# Altium integrated library TI Data Converters Analog to Digital Converter.IntLib: 2198 symbols (part 63 of 164)
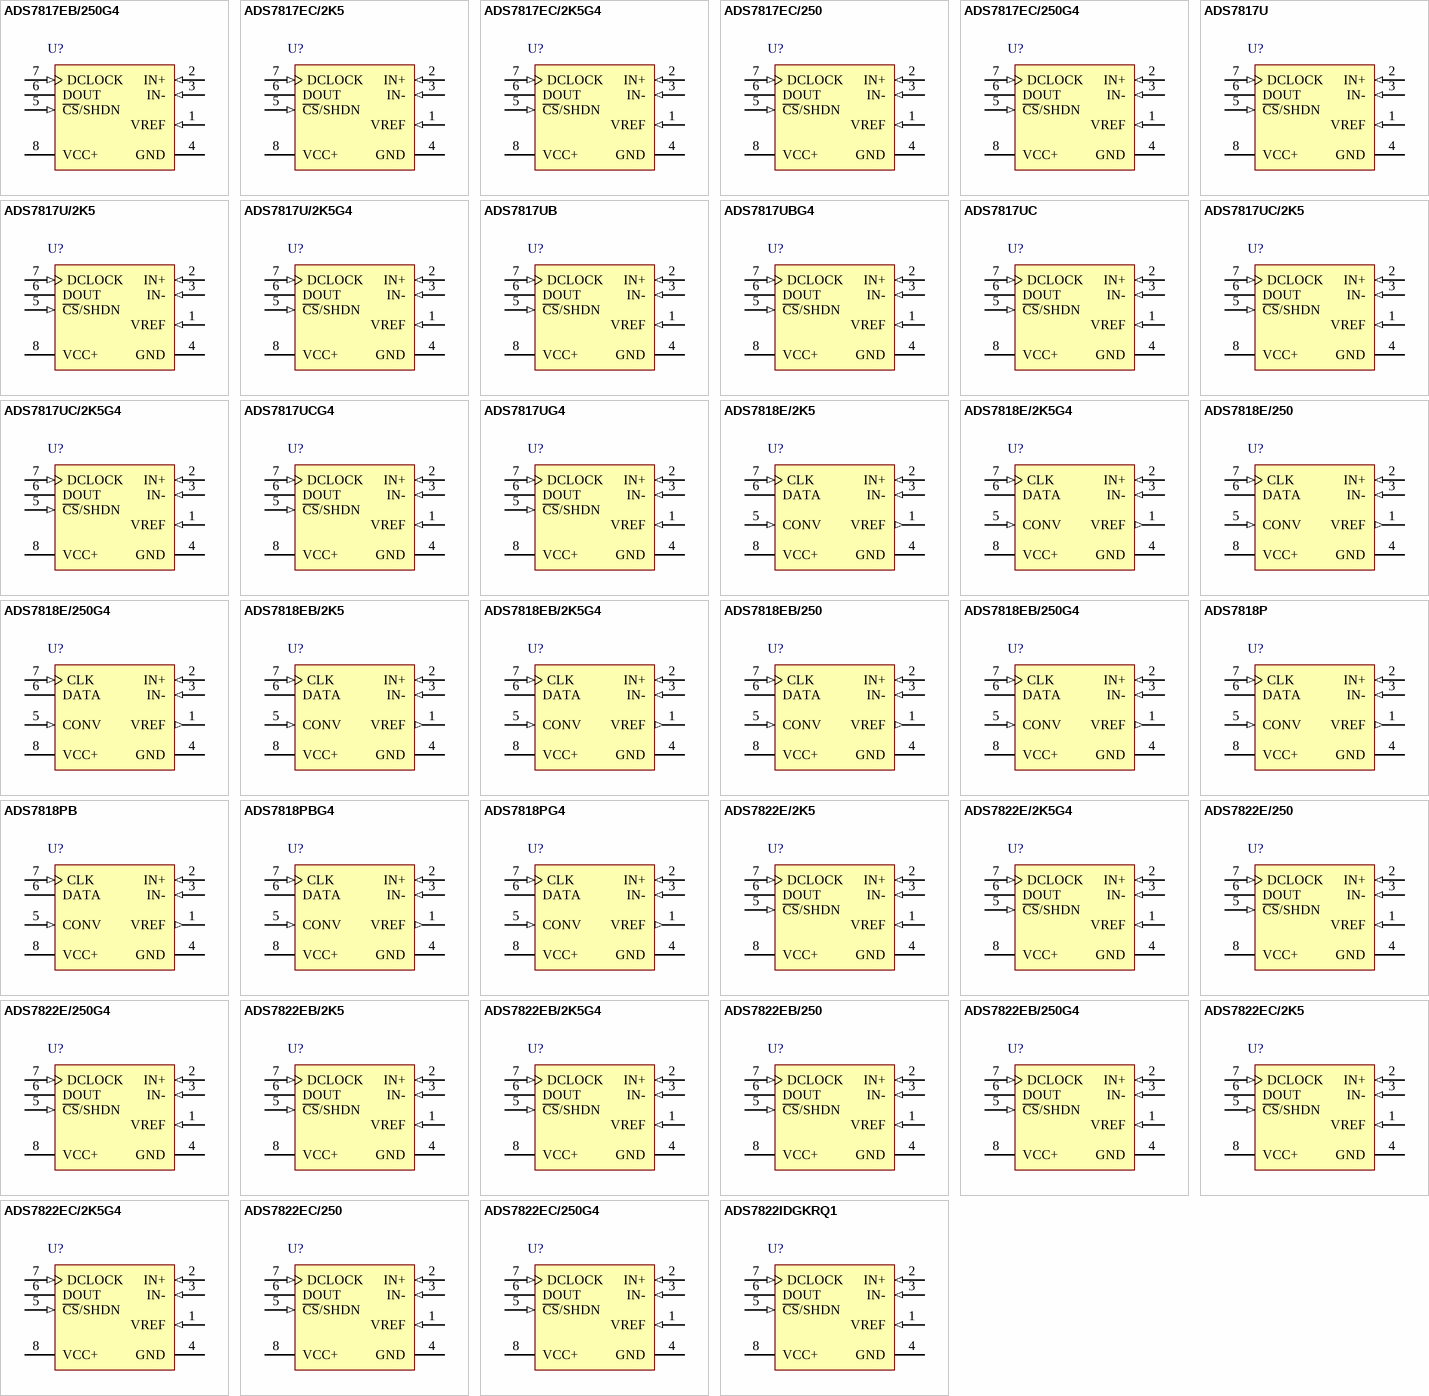
[diagram p188: symbols ADS7817EB/250G4 to ADS7822IDGKRQ1]

## ADS7818EB/250G4
designator U?
12-Bit High Speed Low Power Sampling ADC, -40 to 85 degC, 8-pin SOP (DGK8), Green (RoHS & no Sb/Br); Manufacturer: Texas Instruments; PartNumber: ADS7818EB/250G4; # Input Channels: 1; Analog Voltage AV/DD(Max)(V): 5.25; Analog Voltage AV/DD(Min)(V): 4.75; Architecture: SAR; Interface: Serial SPI; Resolution(Bits): 12; Sample Rate (max)(SPS): 500k; SFDR(dB): 82; SINAD(dB): 72; SubFamily: Precision ADC (<=10MSPS); DatasheetVersion: SBAS078; PackageVersion: 4073329/E, 05/2006; PackageReference: DGK8; PackageDescription: 8-Pin Thin Small Outline, Body 3 x 3 mm, Pitch 0.65 mm; Supplier 1: Digi-Key; Supplier Part Number 1: ADS5272IPFPG4-ND; Digital Supply(Max)(V): 5.25; Digital Supply(Min)(V): 4.75; Eco-Plan: Green (RoHS & no Sb/Br); INL(Max)(+/-LSB): 1; SNR(dB): 72; Mounting Technology: Surface Mount; Code_JEDEC: MO-187; ComponentLink1Description: Manufacturer URL; ComponentLink1URL: http://www.ti.com/; ComponentLink2Description: Datasheet; ComponentLink2URL: http://www.ti.com/general/docs/lit/getliterature.tsp?genericPartNumber=ADS7818&fileType=pdf; ComponentLink3Description: Package Specification; ComponentLink3URL: http://www.ti.com/litv/pdf/mpds028d
footprint TI-DGK8_N (SOP, 8-Leads, Body 3x3mm, Pitch 0.65mm, IPC Medium Density)
footprint TI-DGK8_L (SOP, 8-Leads, Body 3x3mm, Pitch 0.65mm, IPC High Density)
footprint TI-DGK8_M (SOP, 8-Leads, Body 3x3mm, Pitch 0.65mm, IPC Low Density)
pins: 1 VREF (out) "Reference Output. Decouple to ground with a 0.1uF ceramic capacitor and a 2.2uF tantalum capacitor.", 2 IN+ (in) "Non-Inverting Input.", 3 IN- (in) "Inverting Input. Connect to ground or to remote ground sense point.", 4 GND (power) "Ground.", 5 CONV (in) "Convert Input. Controls the sample/hold mode, start of conversion, start of serial data transfer, type of serial transfer, and power down mode. See the Digital Interface section for more information.", 6 DATA (hiz) "Serial Data Output. The 12-bit conversion result is serially transmitted most significant bit first with each bit valid on the rising edge of CLK. By properly controlling the CONV input, it is possibly to have the data (See Datasheet)", 7 CLK (in) "Clock Input. Synchronizes the serial data transfer and determines conversion speed.", 8 VCC+ (power) "Power Supply. Decouple to ground with a 0.1uF ceramic capacitor and a 10uF tantalum capacitor."

## ADS7818P
designator U?
12-Bit High Speed Low Power Sampling ADC, -40 to 85 degC, 8-pin DIP (P8), Green (RoHS & no Sb/Br); Manufacturer: Texas Instruments; PartNumber: ADS7818P; # Input Channels: 1; Analog Voltage AV/DD(Max)(V): 5.25; Analog Voltage AV/DD(Min)(V): 4.75; Architecture: SAR; INL(Max)(+/-LSB): 2; Interface: Serial SPI; Resolution(Bits): 12; Sample Rate (max)(SPS): 500k; SFDR(dB): 78; SINAD(dB): 70; SNR(dB): 72; SubFamily: Precision ADC (<=10MSPS); DatasheetVersion: SBAS078; PackageVersion: 4040082/E, 04/2010; PackageReference: P8; PackageDescription: 8-Pin Plastic In-Line, Body 9.59 x 6.35 mm, Pitch 2.54 mm; Supplier 1: Digi-Key; Supplier Part Number 1: ADS5272IPFPT-ND; Digital Supply(Max)(V): 5.25; Digital Supply(Min)(V): 4.75; Eco-Plan: Green (RoHS & no Sb/Br); Mounting Technology: Through Hole; Code_JEDEC: MS-001; ComponentLink1Description: Manufacturer URL; ComponentLink1URL: http://www.ti.com/; ComponentLink2Description: Datasheet; ComponentLink2URL: http://www.ti.com/general/docs/lit/getliterature.tsp?genericPartNumber=ADS7818&fileType=pdf; ComponentLink3Description: Package Specification; ComponentLink3URL: http://www.ti.com/litv/pdf/mpdi001b
footprint TI-P8 (DIP, 8-Leads, Body 9.59x6.35mm, Pitch 2.54mm)
pins: 1 VREF (out) "Reference Output. Decouple to ground with a 0.1uF ceramic capacitor and a 2.2uF tantalum capacitor.", 2 IN+ (in) "Non-Inverting Input.", 3 IN- (in) "Inverting Input. Connect to ground or to remote ground sense point.", 4 GND (power) "Ground.", 5 CONV (in) "Convert Input. Controls the sample/hold mode, start of conversion, start of serial data transfer, type of serial transfer, and power down mode. See the Digital Interface section for more information.", 6 DATA (hiz) "Serial Data Output. The 12-bit conversion result is serially transmitted most significant bit first with each bit valid on the rising edge of CLK. By properly controlling the CONV input, it is possibly to have the data (See Datasheet)", 7 CLK (in) "Clock Input. Synchronizes the serial data transfer and determines conversion speed.", 8 VCC+ (power) "Power Supply. Decouple to ground with a 0.1uF ceramic capacitor and a 10uF tantalum capacitor."

## ADS7818PB
designator U?
12-Bit High Speed Low Power Sampling ADC, -40 to 85 degC, 8-pin DIP (P8), Green (RoHS & no Sb/Br); Manufacturer: Texas Instruments; PartNumber: ADS7818PB; # Input Channels: 1; Analog Voltage AV/DD(Max)(V): 5.25; Analog Voltage AV/DD(Min)(V): 4.75; Architecture: SAR; Interface: Serial SPI; Resolution(Bits): 12; Sample Rate (max)(SPS): 500k; SFDR(dB): 82; SINAD(dB): 72; SubFamily: Precision ADC (<=10MSPS); DatasheetVersion: SBAS078; PackageVersion: 4040082/E, 04/2010; PackageReference: P8; PackageDescription: 8-Pin Plastic In-Line, Body 9.59 x 6.35 mm, Pitch 2.54 mm; Supplier 1: Digi-Key; Supplier Part Number 1: ADS5272IPFPTG4-ND; Digital Supply(Max)(V): 5.25; Digital Supply(Min)(V): 4.75; Eco-Plan: Green (RoHS & no Sb/Br); INL(Max)(+/-LSB): 1; SNR(dB): 72; Mounting Technology: Through Hole; Code_JEDEC: MS-001; ComponentLink1Description: Manufacturer URL; ComponentLink1URL: http://www.ti.com/; ComponentLink2Description: Datasheet; ComponentLink2URL: http://www.ti.com/general/docs/lit/getliterature.tsp?genericPartNumber=ADS7818&fileType=pdf; ComponentLink3Description: Package Specification; ComponentLink3URL: http://www.ti.com/litv/pdf/mpdi001b
footprint TI-P8 (DIP, 8-Leads, Body 9.59x6.35mm, Pitch 2.54mm)
pins: 1 VREF (out) "Reference Output. Decouple to ground with a 0.1uF ceramic capacitor and a 2.2uF tantalum capacitor.", 2 IN+ (in) "Non-Inverting Input.", 3 IN- (in) "Inverting Input. Connect to ground or to remote ground sense point.", 4 GND (power) "Ground.", 5 CONV (in) "Convert Input. Controls the sample/hold mode, start of conversion, start of serial data transfer, type of serial transfer, and power down mode. See the Digital Interface section for more information.", 6 DATA (hiz) "Serial Data Output. The 12-bit conversion result is serially transmitted most significant bit first with each bit valid on the rising edge of CLK. By properly controlling the CONV input, it is possibly to have the data (See Datasheet)", 7 CLK (in) "Clock Input. Synchronizes the serial data transfer and determines conversion speed.", 8 VCC+ (power) "Power Supply. Decouple to ground with a 0.1uF ceramic capacitor and a 10uF tantalum capacitor."

## ADS7818PBG4
designator U?
12-Bit High Speed Low Power Sampling ADC, -40 to 85 degC, 8-pin DIP (P8), Green (RoHS & no Sb/Br); Manufacturer: Texas Instruments; PartNumber: ADS7818PBG4; # Input Channels: 1; Analog Voltage AV/DD(Max)(V): 5.25; Analog Voltage AV/DD(Min)(V): 4.75; Architecture: SAR; Interface: Serial SPI; Resolution(Bits): 12; Sample Rate (max)(SPS): 500k; SFDR(dB): 82; SINAD(dB): 72; SubFamily: Precision ADC (<=10MSPS); DatasheetVersion: SBAS078; PackageVersion: 4040082/E, 04/2010; PackageReference: P8; PackageDescription: 8-Pin Plastic In-Line, Body 9.59 x 6.35 mm, Pitch 2.54 mm; Supplier 1: Digi-Key; Supplier Part Number 1: 296-18309-ND; Digital Supply(Max)(V): 5.25; Digital Supply(Min)(V): 4.75; Eco-Plan: Green (RoHS & no Sb/Br); INL(Max)(+/-LSB): 1; SNR(dB): 72; Mounting Technology: Through Hole; Code_JEDEC: MS-001; ComponentLink1Description: Manufacturer URL; ComponentLink1URL: http://www.ti.com/; ComponentLink2Description: Datasheet; ComponentLink2URL: http://www.ti.com/general/docs/lit/getliterature.tsp?genericPartNumber=ADS7818&fileType=pdf; ComponentLink3Description: Package Specification; ComponentLink3URL: http://www.ti.com/litv/pdf/mpdi001b
footprint TI-P8 (DIP, 8-Leads, Body 9.59x6.35mm, Pitch 2.54mm)
pins: 1 VREF (out) "Reference Output. Decouple to ground with a 0.1uF ceramic capacitor and a 2.2uF tantalum capacitor.", 2 IN+ (in) "Non-Inverting Input.", 3 IN- (in) "Inverting Input. Connect to ground or to remote ground sense point.", 4 GND (power) "Ground.", 5 CONV (in) "Convert Input. Controls the sample/hold mode, start of conversion, start of serial data transfer, type of serial transfer, and power down mode. See the Digital Interface section for more information.", 6 DATA (hiz) "Serial Data Output. The 12-bit conversion result is serially transmitted most significant bit first with each bit valid on the rising edge of CLK. By properly controlling the CONV input, it is possibly to have the data (See Datasheet)", 7 CLK (in) "Clock Input. Synchronizes the serial data transfer and determines conversion speed.", 8 VCC+ (power) "Power Supply. Decouple to ground with a 0.1uF ceramic capacitor and a 10uF tantalum capacitor."

## ADS7818PG4
designator U?
12-Bit High Speed Low Power Sampling ADC, -40 to 85 degC, 8-pin DIP (P8), Green (RoHS & no Sb/Br); Manufacturer: Texas Instruments; PartNumber: ADS7818PG4; # Input Channels: 1; Analog Voltage AV/DD(Max)(V): 5.25; Analog Voltage AV/DD(Min)(V): 4.75; Architecture: SAR; INL(Max)(+/-LSB): 2; Interface: Serial SPI; Resolution(Bits): 12; Sample Rate (max)(SPS): 500k; SFDR(dB): 78; SINAD(dB): 70; SNR(dB): 72; SubFamily: Precision ADC (<=10MSPS); DatasheetVersion: SBAS078; PackageVersion: 4040082/E, 04/2010; PackageReference: P8; PackageDescription: 8-Pin Plastic In-Line, Body 9.59 x 6.35 mm, Pitch 2.54 mm; Supplier 1: Digi-Key; Supplier Part Number 1: ADS5277IPFPG4-ND; Digital Supply(Max)(V): 5.25; Digital Supply(Min)(V): 4.75; Eco-Plan: Green (RoHS & no Sb/Br); Mounting Technology: Through Hole; Code_JEDEC: MS-001; ComponentLink1Description: Manufacturer URL; ComponentLink1URL: http://www.ti.com/; ComponentLink2Description: Datasheet; ComponentLink2URL: http://www.ti.com/general/docs/lit/getliterature.tsp?genericPartNumber=ADS7818&fileType=pdf; ComponentLink3Description: Package Specification; ComponentLink3URL: http://www.ti.com/litv/pdf/mpdi001b
footprint TI-P8 (DIP, 8-Leads, Body 9.59x6.35mm, Pitch 2.54mm)
pins: 1 VREF (out) "Reference Output. Decouple to ground with a 0.1uF ceramic capacitor and a 2.2uF tantalum capacitor.", 2 IN+ (in) "Non-Inverting Input.", 3 IN- (in) "Inverting Input. Connect to ground or to remote ground sense point.", 4 GND (power) "Ground.", 5 CONV (in) "Convert Input. Controls the sample/hold mode, start of conversion, start of serial data transfer, type of serial transfer, and power down mode. See the Digital Interface section for more information.", 6 DATA (hiz) "Serial Data Output. The 12-bit conversion result is serially transmitted most significant bit first with each bit valid on the rising edge of CLK. By properly controlling the CONV input, it is possibly to have the data (See Datasheet)", 7 CLK (in) "Clock Input. Synchronizes the serial data transfer and determines conversion speed.", 8 VCC+ (power) "Power Supply. Decouple to ground with a 0.1uF ceramic capacitor and a 10uF tantalum capacitor."

## ADS7822E/2K5
designator U?
12-Bit, 200 kSPS Micro Power Sampling ADC, -40 to 85 degC, 8-pin SOP (DGK8), Green (RoHS & no Sb/Br); Manufacturer: Texas Instruments; PartNumber: ADS7822E/2K5; # Input Channels: 1; Analog Voltage AV/DD(Max)(V): 5.25; Analog Voltage AV/DD(Min)(V): 2.7; Architecture: SAR; INL(Max)(+/-LSB): 2; Interface: Serial SPI; Resolution(Bits): 12; Sample Rate (max)(SPS): 200k; SFDR(dB): 86; SINAD(dB): 71; SubFamily: Precision ADC (<=10MSPS); DatasheetVersion: SBAS062C; PackageVersion: 4073329/E, 05/2006; PackageReference: DGK8; PackageDescription: 8-Pin Thin Small Outline, Body 3 x 3 mm, Pitch 0.65 mm; Supplier 1: Digi-Key; Supplier Part Number 1: ADS5277IPFPT-ND; Digital Supply(Max)(V): 5.25; Digital Supply(Min)(V): 2.7; Eco-Plan: Green (RoHS & no Sb/Br); Mounting Technology: Surface Mount; Code_JEDEC: MO-187; ComponentLink1Description: Manufacturer URL; ComponentLink1URL: http://www.ti.com/; ComponentLink2Description: Datasheet; ComponentLink2URL: http://www.ti.com/general/docs/lit/getliterature.tsp?genericPartNumber=ADS7822&fileType=pdf; ComponentLink3Description: Package Specification; ComponentLink3URL: http://www.ti.com/litv/pdf/mpds028d
footprint TI-DGK8_N (SOP, 8-Leads, Body 3x3mm, Pitch 0.65mm, IPC Medium Density)
footprint TI-DGK8_L (SOP, 8-Leads, Body 3x3mm, Pitch 0.65mm, IPC High Density)
footprint TI-DGK8_M (SOP, 8-Leads, Body 3x3mm, Pitch 0.65mm, IPC Low Density)
pins: 1 VREF (in) "Reference input", 2 IN+ (in) "Noninverting input", 3 IN- (in) "Inverting input. Connect to ground or to remote ground sense point.", 4 GND (power) "Ground", 5 ~{CS}/SHDN (in) "Chip select when low; Shutdown mode when high.", 6 DOUT (hiz) "The serial output data word  is comprised of 12 bits of data. In operation, the data are valid on the falling edge of DCLOCK. The second clock pulse after the falling edge of C\S\ enables the serial output. After one null (See Datasheet)", 7 DCLOCK (in) "Data clock synchronizes the serial data transfer and determines conversion speed.", 8 VCC+ (power) "Power supply"

## ADS7822E/2K5G4
designator U?
12-Bit, 200 kSPS Micro Power Sampling ADC, -40 to 85 degC, 8-pin SOP (DGK8), Green (RoHS & no Sb/Br); Manufacturer: Texas Instruments; PartNumber: ADS7822E/2K5G4; # Input Channels: 1; Analog Voltage AV/DD(Max)(V): 5.25; Analog Voltage AV/DD(Min)(V): 2.7; Architecture: SAR; INL(Max)(+/-LSB): 2; Interface: Serial SPI; Resolution(Bits): 12; Sample Rate (max)(SPS): 200k; SFDR(dB): 86; SINAD(dB): 71; SubFamily: Precision ADC (<=10MSPS); DatasheetVersion: SBAS062C; PackageVersion: 4073329/E, 05/2006; PackageReference: DGK8; PackageDescription: 8-Pin Thin Small Outline, Body 3 x 3 mm, Pitch 0.65 mm; Supplier 1: Digi-Key; Supplier Part Number 1: ADS5277IPFPTG4-ND; Digital Supply(Max)(V): 5.25; Digital Supply(Min)(V): 2.7; Eco-Plan: Green (RoHS & no Sb/Br); Mounting Technology: Surface Mount; Code_JEDEC: MO-187; ComponentLink1Description: Manufacturer URL; ComponentLink1URL: http://www.ti.com/; ComponentLink2Description: Datasheet; ComponentLink2URL: http://www.ti.com/general/docs/lit/getliterature.tsp?genericPartNumber=ADS7822&fileType=pdf; ComponentLink3Description: Package Specification; ComponentLink3URL: http://www.ti.com/litv/pdf/mpds028d
footprint TI-DGK8_N (SOP, 8-Leads, Body 3x3mm, Pitch 0.65mm, IPC Medium Density)
footprint TI-DGK8_L (SOP, 8-Leads, Body 3x3mm, Pitch 0.65mm, IPC High Density)
footprint TI-DGK8_M (SOP, 8-Leads, Body 3x3mm, Pitch 0.65mm, IPC Low Density)
pins: 1 VREF (in) "Reference input", 2 IN+ (in) "Noninverting input", 3 IN- (in) "Inverting input. Connect to ground or to remote ground sense point.", 4 GND (power) "Ground", 5 ~{CS}/SHDN (in) "Chip select when low; Shutdown mode when high.", 6 DOUT (hiz) "The serial output data word  is comprised of 12 bits of data. In operation, the data are valid on the falling edge of DCLOCK. The second clock pulse after the falling edge of C\S\ enables the serial output. After one null (See Datasheet)", 7 DCLOCK (in) "Data clock synchronizes the serial data transfer and determines conversion speed.", 8 VCC+ (power) "Power supply"

## ADS7822E/250
designator U?
12-Bit, 200 kSPS Micro Power Sampling ADC, -40 to 85 degC, 8-pin SOP (DGK8), Green (RoHS & no Sb/Br); Manufacturer: Texas Instruments; PartNumber: ADS7822E/250; # Input Channels: 1; Analog Voltage AV/DD(Max)(V): 5.25; Analog Voltage AV/DD(Min)(V): 2.7; Architecture: SAR; INL(Max)(+/-LSB): 2; Interface: Serial SPI; Resolution(Bits): 12; Sample Rate (max)(SPS): 200k; SFDR(dB): 86; SINAD(dB): 71; SubFamily: Precision ADC (<=10MSPS); DatasheetVersion: SBAS062C; PackageVersion: 4073329/E, 05/2006; PackageReference: DGK8; PackageDescription: 8-Pin Thin Small Outline, Body 3 x 3 mm, Pitch 0.65 mm; Supplier 1: Digi-Key; Supplier Part Number 1: 296-17827-ND; Digital Supply(Max)(V): 5.25; Digital Supply(Min)(V): 2.7; Eco-Plan: Green (RoHS & no Sb/Br); Mounting Technology: Surface Mount; Code_JEDEC: MO-187; ComponentLink1Description: Manufacturer URL; ComponentLink1URL: http://www.ti.com/; ComponentLink2Description: Datasheet; ComponentLink2URL: http://www.ti.com/general/docs/lit/getliterature.tsp?genericPartNumber=ADS7822&fileType=pdf; ComponentLink3Description: Package Specification; ComponentLink3URL: http://www.ti.com/litv/pdf/mpds028d
footprint TI-DGK8_N (SOP, 8-Leads, Body 3x3mm, Pitch 0.65mm, IPC Medium Density)
footprint TI-DGK8_L (SOP, 8-Leads, Body 3x3mm, Pitch 0.65mm, IPC High Density)
footprint TI-DGK8_M (SOP, 8-Leads, Body 3x3mm, Pitch 0.65mm, IPC Low Density)
pins: 1 VREF (in) "Reference input", 2 IN+ (in) "Noninverting input", 3 IN- (in) "Inverting input. Connect to ground or to remote ground sense point.", 4 GND (power) "Ground", 5 ~{CS}/SHDN (in) "Chip select when low; Shutdown mode when high.", 6 DOUT (hiz) "The serial output data word  is comprised of 12 bits of data. In operation, the data are valid on the falling edge of DCLOCK. The second clock pulse after the falling edge of C\S\ enables the serial output. After one null (See Datasheet)", 7 DCLOCK (in) "Data clock synchronizes the serial data transfer and determines conversion speed.", 8 VCC+ (power) "Power supply"

## ADS7822E/250G4
designator U?
12-Bit, 200 kSPS Micro Power Sampling ADC, -40 to 85 degC, 8-pin SOP (DGK8), Green (RoHS & no Sb/Br); Manufacturer: Texas Instruments; PartNumber: ADS7822E/250G4; # Input Channels: 1; Analog Voltage AV/DD(Max)(V): 5.25; Analog Voltage AV/DD(Min)(V): 2.7; Architecture: SAR; INL(Max)(+/-LSB): 2; Interface: Serial SPI; Resolution(Bits): 12; Sample Rate (max)(SPS): 200k; SFDR(dB): 86; SINAD(dB): 71; SubFamily: Precision ADC (<=10MSPS); DatasheetVersion: SBAS062C; PackageVersion: 4073329/E, 05/2006; PackageReference: DGK8; PackageDescription: 8-Pin Thin Small Outline, Body 3 x 3 mm, Pitch 0.65 mm; Supplier 1: Digi-Key; Supplier Part Number 1: ADS5553IPFPG4-ND; Digital Supply(Max)(V): 5.25; Digital Supply(Min)(V): 2.7; Eco-Plan: Green (RoHS & no Sb/Br); Mounting Technology: Surface Mount; Code_JEDEC: MO-187; ComponentLink1Description: Manufacturer URL; ComponentLink1URL: http://www.ti.com/; ComponentLink2Description: Datasheet; ComponentLink2URL: http://www.ti.com/general/docs/lit/getliterature.tsp?genericPartNumber=ADS7822&fileType=pdf; ComponentLink3Description: Package Specification; ComponentLink3URL: http://www.ti.com/litv/pdf/mpds028d
footprint TI-DGK8_N (SOP, 8-Leads, Body 3x3mm, Pitch 0.65mm, IPC Medium Density)
footprint TI-DGK8_L (SOP, 8-Leads, Body 3x3mm, Pitch 0.65mm, IPC High Density)
footprint TI-DGK8_M (SOP, 8-Leads, Body 3x3mm, Pitch 0.65mm, IPC Low Density)
pins: 1 VREF (in) "Reference input", 2 IN+ (in) "Noninverting input", 3 IN- (in) "Inverting input. Connect to ground or to remote ground sense point.", 4 GND (power) "Ground", 5 ~{CS}/SHDN (in) "Chip select when low; Shutdown mode when high.", 6 DOUT (hiz) "The serial output data word  is comprised of 12 bits of data. In operation, the data are valid on the falling edge of DCLOCK. The second clock pulse after the falling edge of C\S\ enables the serial output. After one null (See Datasheet)", 7 DCLOCK (in) "Data clock synchronizes the serial data transfer and determines conversion speed.", 8 VCC+ (power) "Power supply"

## ADS7822EB/2K5
designator U?
12-Bit, 200 kSPS Micro Power Sampling ADC, -40 to 85 degC, 8-pin SOP (DGK8), Green (RoHS & no Sb/Br); Manufacturer: Texas Instruments; PartNumber: ADS7822EB/2K5; # Input Channels: 1; Analog Voltage AV/DD(Max)(V): 5.25; Analog Voltage AV/DD(Min)(V): 2.7; Architecture: SAR; Interface: Serial SPI; Resolution(Bits): 12; Sample Rate (max)(SPS): 200k; SFDR(dB): 86; SINAD(dB): 71; SubFamily: Precision ADC (<=10MSPS); DatasheetVersion: SBAS062C; PackageVersion: 4073329/E, 05/2006; PackageReference: DGK8; PackageDescription: 8-Pin Thin Small Outline, Body 3 x 3 mm, Pitch 0.65 mm; Supplier 1: Digi-Key; Supplier Part Number 1: ADS5553IPFPR-ND; Digital Supply(Max)(V): 5.25; Digital Supply(Min)(V): 2.7; Eco-Plan: Green (RoHS & no Sb/Br); INL(Max)(+/-LSB): 1; Mounting Technology: Surface Mount; Code_JEDEC: MO-187; ComponentLink1Description: Manufacturer URL; ComponentLink1URL: http://www.ti.com/; ComponentLink2Description: Datasheet; ComponentLink2URL: http://www.ti.com/general/docs/lit/getliterature.tsp?genericPartNumber=ADS7822&fileType=pdf; ComponentLink3Description: Package Specification; ComponentLink3URL: http://www.ti.com/litv/pdf/mpds028d
footprint TI-DGK8_N (SOP, 8-Leads, Body 3x3mm, Pitch 0.65mm, IPC Medium Density)
footprint TI-DGK8_L (SOP, 8-Leads, Body 3x3mm, Pitch 0.65mm, IPC High Density)
footprint TI-DGK8_M (SOP, 8-Leads, Body 3x3mm, Pitch 0.65mm, IPC Low Density)
pins: 1 VREF (in) "Reference input", 2 IN+ (in) "Noninverting input", 3 IN- (in) "Inverting input. Connect to ground or to remote ground sense point.", 4 GND (power) "Ground", 5 ~{CS}/SHDN (in) "Chip select when low; Shutdown mode when high.", 6 DOUT (hiz) "The serial output data word  is comprised of 12 bits of data. In operation, the data are valid on the falling edge of DCLOCK. The second clock pulse after the falling edge of C\S\ enables the serial output. After one null (See Datasheet)", 7 DCLOCK (in) "Data clock synchronizes the serial data transfer and determines conversion speed.", 8 VCC+ (power) "Power supply"

## ADS7822EB/2K5G4
designator U?
12-Bit, 200 kSPS Micro Power Sampling ADC, -40 to 85 degC, 8-pin SOP (DGK8), Green (RoHS & no Sb/Br); Manufacturer: Texas Instruments; PartNumber: ADS7822EB/2K5G4; # Input Channels: 1; Analog Voltage AV/DD(Max)(V): 5.25; Analog Voltage AV/DD(Min)(V): 2.7; Architecture: SAR; Interface: Serial SPI; Resolution(Bits): 12; Sample Rate (max)(SPS): 200k; SFDR(dB): 86; SINAD(dB): 71; SubFamily: Precision ADC (<=10MSPS); DatasheetVersion: SBAS062C; PackageVersion: 4073329/E, 05/2006; PackageReference: DGK8; PackageDescription: 8-Pin Thin Small Outline, Body 3 x 3 mm, Pitch 0.65 mm; Supplier 1: Digi-Key; Supplier Part Number 1: ADS5553IPFPRG4-ND; Digital Supply(Max)(V): 5.25; Digital Supply(Min)(V): 2.7; Eco-Plan: Green (RoHS & no Sb/Br); INL(Max)(+/-LSB): 1; Mounting Technology: Surface Mount; Code_JEDEC: MO-187; ComponentLink1Description: Manufacturer URL; ComponentLink1URL: http://www.ti.com/; ComponentLink2Description: Datasheet; ComponentLink2URL: http://www.ti.com/general/docs/lit/getliterature.tsp?genericPartNumber=ADS7822&fileType=pdf; ComponentLink3Description: Package Specification; ComponentLink3URL: http://www.ti.com/litv/pdf/mpds028d
footprint TI-DGK8_N (SOP, 8-Leads, Body 3x3mm, Pitch 0.65mm, IPC Medium Density)
footprint TI-DGK8_L (SOP, 8-Leads, Body 3x3mm, Pitch 0.65mm, IPC High Density)
footprint TI-DGK8_M (SOP, 8-Leads, Body 3x3mm, Pitch 0.65mm, IPC Low Density)
pins: 1 VREF (in) "Reference input", 2 IN+ (in) "Noninverting input", 3 IN- (in) "Inverting input. Connect to ground or to remote ground sense point.", 4 GND (power) "Ground", 5 ~{CS}/SHDN (in) "Chip select when low; Shutdown mode when high.", 6 DOUT (hiz) "The serial output data word  is comprised of 12 bits of data. In operation, the data are valid on the falling edge of DCLOCK. The second clock pulse after the falling edge of C\S\ enables the serial output. After one null (See Datasheet)", 7 DCLOCK (in) "Data clock synchronizes the serial data transfer and determines conversion speed.", 8 VCC+ (power) "Power supply"

## ADS7822EB/250
designator U?
12-Bit, 200 kSPS Micro Power Sampling ADC, -40 to 85 degC, 8-pin SOP (DGK8), Green (RoHS & no Sb/Br); Manufacturer: Texas Instruments; PartNumber: ADS7822EB/250; # Input Channels: 1; Analog Voltage AV/DD(Max)(V): 5.25; Analog Voltage AV/DD(Min)(V): 2.7; Architecture: SAR; Interface: Serial SPI; Resolution(Bits): 12; Sample Rate (max)(SPS): 200k; SFDR(dB): 86; SINAD(dB): 71; SubFamily: Precision ADC (<=10MSPS); DatasheetVersion: SBAS062C; PackageVersion: 4073329/E, 05/2006; PackageReference: DGK8; PackageDescription: 8-Pin Thin Small Outline, Body 3 x 3 mm, Pitch 0.65 mm; Supplier 1: Digi-Key; Supplier Part Number 1: 296-17153-ND; Digital Supply(Max)(V): 5.25; Digital Supply(Min)(V): 2.7; Eco-Plan: Green (RoHS & no Sb/Br); INL(Max)(+/-LSB): 1; Mounting Technology: Surface Mount; Code_JEDEC: MO-187; ComponentLink1Description: Manufacturer URL; ComponentLink1URL: http://www.ti.com/; ComponentLink2Description: Datasheet; ComponentLink2URL: http://www.ti.com/general/docs/lit/getliterature.tsp?genericPartNumber=ADS7822&fileType=pdf; ComponentLink3Description: Package Specification; ComponentLink3URL: http://www.ti.com/litv/pdf/mpds028d
footprint TI-DGK8_N (SOP, 8-Leads, Body 3x3mm, Pitch 0.65mm, IPC Medium Density)
footprint TI-DGK8_L (SOP, 8-Leads, Body 3x3mm, Pitch 0.65mm, IPC High Density)
footprint TI-DGK8_M (SOP, 8-Leads, Body 3x3mm, Pitch 0.65mm, IPC Low Density)
pins: 1 VREF (in) "Reference input", 2 IN+ (in) "Noninverting input", 3 IN- (in) "Inverting input. Connect to ground or to remote ground sense point.", 4 GND (power) "Ground", 5 ~{CS}/SHDN (in) "Chip select when low; Shutdown mode when high.", 6 DOUT (hiz) "The serial output data word  is comprised of 12 bits of data. In operation, the data are valid on the falling edge of DCLOCK. The second clock pulse after the falling edge of C\S\ enables the serial output. After one null (See Datasheet)", 7 DCLOCK (in) "Data clock synchronizes the serial data transfer and determines conversion speed.", 8 VCC+ (power) "Power supply"

## ADS7822EB/250G4
designator U?
12-Bit, 200 kSPS Micro Power Sampling ADC, -40 to 85 degC, 8-pin SOP (DGK8), Green (RoHS & no Sb/Br); Manufacturer: Texas Instruments; PartNumber: ADS7822EB/250G4; # Input Channels: 1; Analog Voltage AV/DD(Max)(V): 5.25; Analog Voltage AV/DD(Min)(V): 2.7; Architecture: SAR; Interface: Serial SPI; Resolution(Bits): 12; Sample Rate (max)(SPS): 200k; SFDR(dB): 86; SINAD(dB): 71; SubFamily: Precision ADC (<=10MSPS); DatasheetVersion: SBAS062C; PackageVersion: 4073329/E, 05/2006; PackageReference: DGK8; PackageDescription: 8-Pin Thin Small Outline, Body 3 x 3 mm, Pitch 0.65 mm; Supplier 1: Digi-Key; Supplier Part Number 1: ADS5271IPFPG4-ND; Digital Supply(Max)(V): 5.25; Digital Supply(Min)(V): 2.7; Eco-Plan: Green (RoHS & no Sb/Br); INL(Max)(+/-LSB): 1; Mounting Technology: Surface Mount; Code_JEDEC: MO-187; ComponentLink1Description: Manufacturer URL; ComponentLink1URL: http://www.ti.com/; ComponentLink2Description: Datasheet; ComponentLink2URL: http://www.ti.com/general/docs/lit/getliterature.tsp?genericPartNumber=ADS7822&fileType=pdf; ComponentLink3Description: Package Specification; ComponentLink3URL: http://www.ti.com/litv/pdf/mpds028d
footprint TI-DGK8_N (SOP, 8-Leads, Body 3x3mm, Pitch 0.65mm, IPC Medium Density)
footprint TI-DGK8_L (SOP, 8-Leads, Body 3x3mm, Pitch 0.65mm, IPC High Density)
footprint TI-DGK8_M (SOP, 8-Leads, Body 3x3mm, Pitch 0.65mm, IPC Low Density)
pins: 1 VREF (in) "Reference input", 2 IN+ (in) "Noninverting input", 3 IN- (in) "Inverting input. Connect to ground or to remote ground sense point.", 4 GND (power) "Ground", 5 ~{CS}/SHDN (in) "Chip select when low; Shutdown mode when high.", 6 DOUT (hiz) "The serial output data word  is comprised of 12 bits of data. In operation, the data are valid on the falling edge of DCLOCK. The second clock pulse after the falling edge of C\S\ enables the serial output. After one null (See Datasheet)", 7 DCLOCK (in) "Data clock synchronizes the serial data transfer and determines conversion speed.", 8 VCC+ (power) "Power supply"

## ADS7822EC/2K5
designator U?
12-Bit, 200 kSPS Micro Power Sampling ADC, -40 to 85 degC, 8-pin SOP (DGK8), Green (RoHS & no Sb/Br); Manufacturer: Texas Instruments; PartNumber: ADS7822EC/2K5; # Input Channels: 1; Analog Voltage AV/DD(Max)(V): 5.25; Analog Voltage AV/DD(Min)(V): 2.7; Architecture: SAR; INL(Max)(+/-LSB): 0.75; Interface: Serial SPI; Resolution(Bits): 12; Sample Rate (max)(SPS): 200k; SFDR(dB): 86; SINAD(dB): 71; SubFamily: Precision ADC (<=10MSPS); DatasheetVersion: SBAS062C; PackageVersion: 4073329/E, 05/2006; PackageReference: DGK8; PackageDescription: 8-Pin Thin Small Outline, Body 3 x 3 mm, Pitch 0.65 mm; Supplier 1: Digi-Key; Supplier Part Number 1: ADS5271IPFPT-ND; Digital Supply(Max)(V): 5.25; Digital Supply(Min)(V): 2.7; Eco-Plan: Green (RoHS & no Sb/Br); Mounting Technology: Surface Mount; Code_JEDEC: MO-187; ComponentLink1Description: Manufacturer URL; ComponentLink1URL: http://www.ti.com/; ComponentLink2Description: Datasheet; ComponentLink2URL: http://www.ti.com/general/docs/lit/getliterature.tsp?genericPartNumber=ADS7822&fileType=pdf; ComponentLink3Description: Package Specification; ComponentLink3URL: http://www.ti.com/litv/pdf/mpds028d
footprint TI-DGK8_N (SOP, 8-Leads, Body 3x3mm, Pitch 0.65mm, IPC Medium Density)
footprint TI-DGK8_L (SOP, 8-Leads, Body 3x3mm, Pitch 0.65mm, IPC High Density)
footprint TI-DGK8_M (SOP, 8-Leads, Body 3x3mm, Pitch 0.65mm, IPC Low Density)
pins: 1 VREF (in) "Reference input", 2 IN+ (in) "Noninverting input", 3 IN- (in) "Inverting input. Connect to ground or to remote ground sense point.", 4 GND (power) "Ground", 5 ~{CS}/SHDN (in) "Chip select when low; Shutdown mode when high.", 6 DOUT (hiz) "The serial output data word  is comprised of 12 bits of data. In operation, the data are valid on the falling edge of DCLOCK. The second clock pulse after the falling edge of C\S\ enables the serial output. After one null (See Datasheet)", 7 DCLOCK (in) "Data clock synchronizes the serial data transfer and determines conversion speed.", 8 VCC+ (power) "Power supply"

## ADS7822EC/2K5G4
designator U?
12-Bit, 200 kSPS Micro Power Sampling ADC, -40 to 85 degC, 8-pin SOP (DGK8), Green (RoHS & no Sb/Br); Manufacturer: Texas Instruments; PartNumber: ADS7822EC/2K5G4; # Input Channels: 1; Analog Voltage AV/DD(Max)(V): 5.25; Analog Voltage AV/DD(Min)(V): 2.7; Architecture: SAR; INL(Max)(+/-LSB): 0.75; Interface: Serial SPI; Resolution(Bits): 12; Sample Rate (max)(SPS): 200k; SFDR(dB): 86; SINAD(dB): 71; SubFamily: Precision ADC (<=10MSPS); DatasheetVersion: SBAS062C; PackageVersion: 4073329/E, 05/2006; PackageReference: DGK8; PackageDescription: 8-Pin Thin Small Outline, Body 3 x 3 mm, Pitch 0.65 mm; Supplier 1: Digi-Key; Supplier Part Number 1: ADS5271IPFPTG4-ND; Digital Supply(Max)(V): 5.25; Digital Supply(Min)(V): 2.7; Eco-Plan: Green (RoHS & no Sb/Br); Mounting Technology: Surface Mount; Code_JEDEC: MO-187; ComponentLink1Description: Manufacturer URL; ComponentLink1URL: http://www.ti.com/; ComponentLink2Description: Datasheet; ComponentLink2URL: http://www.ti.com/general/docs/lit/getliterature.tsp?genericPartNumber=ADS7822&fileType=pdf; ComponentLink3Description: Package Specification; ComponentLink3URL: http://www.ti.com/litv/pdf/mpds028d
footprint TI-DGK8_N (SOP, 8-Leads, Body 3x3mm, Pitch 0.65mm, IPC Medium Density)
footprint TI-DGK8_L (SOP, 8-Leads, Body 3x3mm, Pitch 0.65mm, IPC High Density)
footprint TI-DGK8_M (SOP, 8-Leads, Body 3x3mm, Pitch 0.65mm, IPC Low Density)
pins: 1 VREF (in) "Reference input", 2 IN+ (in) "Noninverting input", 3 IN- (in) "Inverting input. Connect to ground or to remote ground sense point.", 4 GND (power) "Ground", 5 ~{CS}/SHDN (in) "Chip select when low; Shutdown mode when high.", 6 DOUT (hiz) "The serial output data word  is comprised of 12 bits of data. In operation, the data are valid on the falling edge of DCLOCK. The second clock pulse after the falling edge of C\S\ enables the serial output. After one null (See Datasheet)", 7 DCLOCK (in) "Data clock synchronizes the serial data transfer and determines conversion speed.", 8 VCC+ (power) "Power supply"

## ADS7822EC/250
designator U?
12-Bit, 200 kSPS Micro Power Sampling ADC, -40 to 85 degC, 8-pin SOP (DGK8), Green (RoHS & no Sb/Br); Manufacturer: Texas Instruments; PartNumber: ADS7822EC/250; # Input Channels: 1; Analog Voltage AV/DD(Max)(V): 5.25; Analog Voltage AV/DD(Min)(V): 2.7; Architecture: SAR; INL(Max)(+/-LSB): 0.75; Interface: Serial SPI; Resolution(Bits): 12; Sample Rate (max)(SPS): 200k; SFDR(dB): 86; SINAD(dB): 71; SubFamily: Precision ADC (<=10MSPS); DatasheetVersion: SBAS062C; PackageVersion: 4073329/E, 05/2006; PackageReference: DGK8; PackageDescription: 8-Pin Thin Small Outline, Body 3 x 3 mm, Pitch 0.65 mm; Supplier 1: Digi-Key; Supplier Part Number 1: 296-17091-ND; Digital Supply(Max)(V): 5.25; Digital Supply(Min)(V): 2.7; Eco-Plan: Green (RoHS & no Sb/Br); Mounting Technology: Surface Mount; Code_JEDEC: MO-187; ComponentLink1Description: Manufacturer URL; ComponentLink1URL: http://www.ti.com/; ComponentLink2Description: Datasheet; ComponentLink2URL: http://www.ti.com/general/docs/lit/getliterature.tsp?genericPartNumber=ADS7822&fileType=pdf; ComponentLink3Description: Package Specification; ComponentLink3URL: http://www.ti.com/litv/pdf/mpds028d
footprint TI-DGK8_N (SOP, 8-Leads, Body 3x3mm, Pitch 0.65mm, IPC Medium Density)
footprint TI-DGK8_L (SOP, 8-Leads, Body 3x3mm, Pitch 0.65mm, IPC High Density)
footprint TI-DGK8_M (SOP, 8-Leads, Body 3x3mm, Pitch 0.65mm, IPC Low Density)
pins: 1 VREF (in) "Reference input", 2 IN+ (in) "Noninverting input", 3 IN- (in) "Inverting input. Connect to ground or to remote ground sense point.", 4 GND (power) "Ground", 5 ~{CS}/SHDN (in) "Chip select when low; Shutdown mode when high.", 6 DOUT (hiz) "The serial output data word  is comprised of 12 bits of data. In operation, the data are valid on the falling edge of DCLOCK. The second clock pulse after the falling edge of C\S\ enables the serial output. After one null (See Datasheet)", 7 DCLOCK (in) "Data clock synchronizes the serial data transfer and determines conversion speed.", 8 VCC+ (power) "Power supply"

## ADS7822EC/250G4
designator U?
12-Bit, 200 kSPS Micro Power Sampling ADC, -40 to 85 degC, 8-pin SOP (DGK8), Green (RoHS & no Sb/Br); Manufacturer: Texas Instruments; PartNumber: ADS7822EC/250G4; # Input Channels: 1; Analog Voltage AV/DD(Max)(V): 5.25; Analog Voltage AV/DD(Min)(V): 2.7; Architecture: SAR; INL(Max)(+/-LSB): 0.75; Interface: Serial SPI; Resolution(Bits): 12; Sample Rate (max)(SPS): 200k; SFDR(dB): 86; SINAD(dB): 71; SubFamily: Precision ADC (<=10MSPS); DatasheetVersion: SBAS062C; PackageVersion: 4073329/E, 05/2006; PackageReference: DGK8; PackageDescription: 8-Pin Thin Small Outline, Body 3 x 3 mm, Pitch 0.65 mm; Supplier 1: Digi-Key; Supplier Part Number 1: ADS5270IPFPG4-ND; Digital Supply(Max)(V): 5.25; Digital Supply(Min)(V): 2.7; Eco-Plan: Green (RoHS & no Sb/Br); Mounting Technology: Surface Mount; Code_JEDEC: MO-187; ComponentLink1Description: Manufacturer URL; ComponentLink1URL: http://www.ti.com/; ComponentLink2Description: Datasheet; ComponentLink2URL: http://www.ti.com/general/docs/lit/getliterature.tsp?genericPartNumber=ADS7822&fileType=pdf; ComponentLink3Description: Package Specification; ComponentLink3URL: http://www.ti.com/litv/pdf/mpds028d
footprint TI-DGK8_N (SOP, 8-Leads, Body 3x3mm, Pitch 0.65mm, IPC Medium Density)
footprint TI-DGK8_L (SOP, 8-Leads, Body 3x3mm, Pitch 0.65mm, IPC High Density)
footprint TI-DGK8_M (SOP, 8-Leads, Body 3x3mm, Pitch 0.65mm, IPC Low Density)
pins: 1 VREF (in) "Reference input", 2 IN+ (in) "Noninverting input", 3 IN- (in) "Inverting input. Connect to ground or to remote ground sense point.", 4 GND (power) "Ground", 5 ~{CS}/SHDN (in) "Chip select when low; Shutdown mode when high.", 6 DOUT (hiz) "The serial output data word  is comprised of 12 bits of data. In operation, the data are valid on the falling edge of DCLOCK. The second clock pulse after the falling edge of C\S\ enables the serial output. After one null (See Datasheet)", 7 DCLOCK (in) "Data clock synchronizes the serial data transfer and determines conversion speed.", 8 VCC+ (power) "Power supply"

## ADS7822IDGKRQ1
designator U?
Automotive Catalog 12-Bit, 200 kSPS Micro Power Sampling ADC, -40 to 85 degC, 8-pin SOP (DGK8), Green (RoHS & no Sb/Br); Manufacturer: Texas Instruments; PartNumber: ADS7822IDGKRQ1; # Input Channels: 1; Analog Voltage AV/DD(Max)(V): 5.25; Analog Voltage AV/DD(Min)(V): 2.7; Architecture: SAR; INL(Max)(+/-LSB): 2; Interface: Serial SPI; Resolution(Bits): 12; Sample Rate (max)(SPS): 200k; SFDR(dB): 86; SINAD(dB): 71; SubFamily: Precision ADC (<=10MSPS); DatasheetVersion: SGLS299; PackageVersion: 4073329/E, 05/2006; PackageReference: DGK8; PackageDescription: 8-Pin Thin Small Outline, Body 3 x 3 mm, Pitch 0.65 mm; Supplier 1: Digi-Key; Supplier Part Number 1: ADS5270IPFPT-ND; Digital Supply(Max)(V): 5.25; Digital Supply(Min)(V): 2.7; Eco-Plan: Green (RoHS & no Sb/Br); Mounting Technology: Surface Mount; Code_JEDEC: MO-187; ComponentLink1Description: Manufacturer URL; ComponentLink1URL: http://www.ti.com/; ComponentLink2Description: Datasheet; ComponentLink2URL: http://www.ti.com/general/docs/lit/getliterature.tsp?genericPartNumber=ADS7822-Q1&fileType=pdf; ComponentLink3Description: Package Specification; ComponentLink3URL: http://www.ti.com/litv/pdf/mpds028d
footprint TI-DGK8_N (SOP, 8-Leads, Body 3x3mm, Pitch 0.65mm, IPC Medium Density)
footprint TI-DGK8_L (SOP, 8-Leads, Body 3x3mm, Pitch 0.65mm, IPC High Density)
footprint TI-DGK8_M (SOP, 8-Leads, Body 3x3mm, Pitch 0.65mm, IPC Low Density)
pins: 1 VREF (in) "Reference input", 2 IN+ (in) "Noninverting input", 3 IN- (in) "Inverting input. Connect to ground or to remote ground sense point.", 4 GND (power) "Ground", 5 ~{CS}/SHDN (in) "Chip select when low; Shutdown mode when high.", 6 DOUT (hiz) "The serial output data word  is comprised of 12 bits of data. In operation, the data are valid on the falling edge of DCLOCK. The second clock pulse after the falling edge of C\S\ enables the serial output. After one null (See Datasheet)", 7 DCLOCK (in) "Data clock synchronizes the serial data transfer and determines conversion speed.", 8 VCC+ (power) "Power supply"

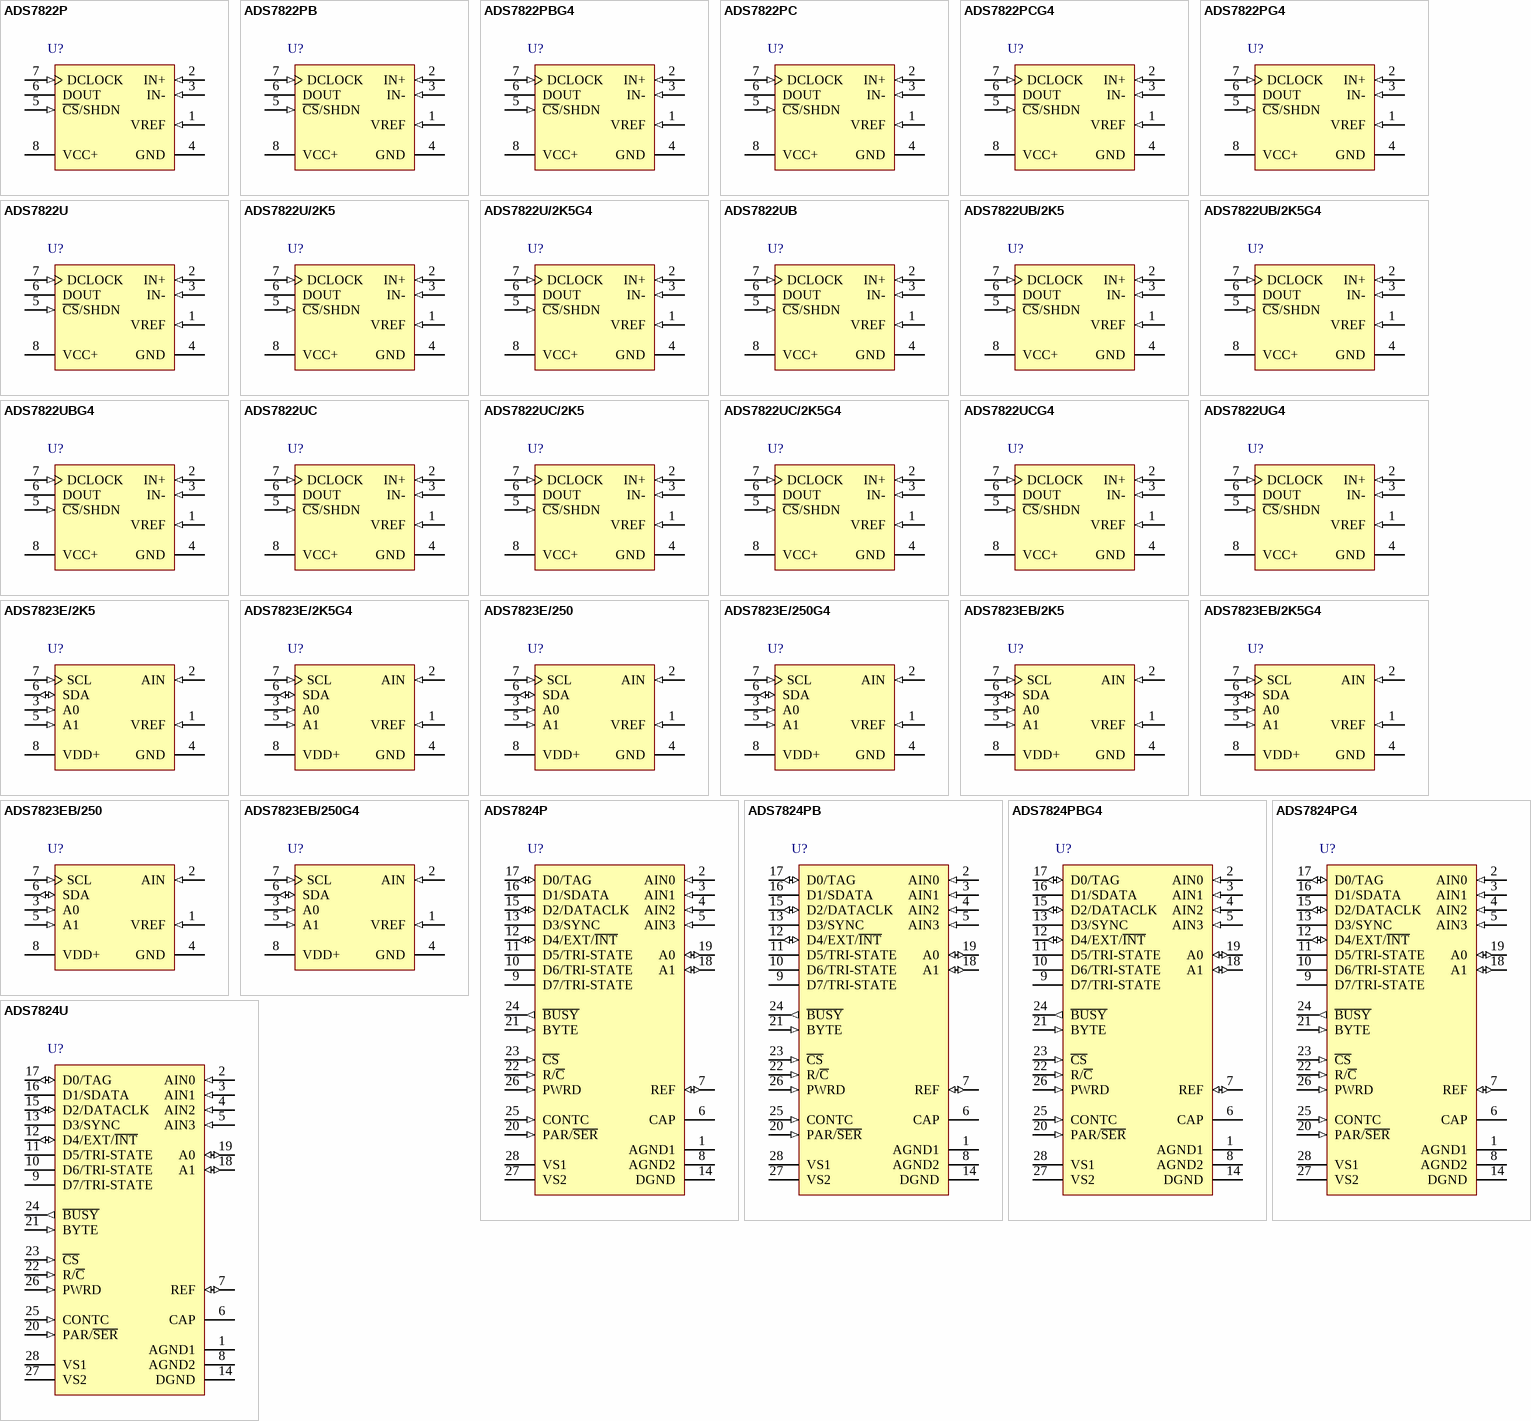
[diagram p61: symbols ADS7822P to ADS7824U]

## ADS7822P
designator U?
12-Bit, 200 kSPS Micro Power Sampling ADC, -40 to 85 degC, 8-pin DIP (P8), Green (RoHS & no Sb/Br); Manufacturer: Texas Instruments; PartNumber: ADS7822P; # Input Channels: 1; Analog Voltage AV/DD(Max)(V): 5.25; Analog Voltage AV/DD(Min)(V): 2.7; Architecture: SAR; INL(Max)(+/-LSB): 2; Interface: Serial SPI; Resolution(Bits): 12; Sample Rate (max)(SPS): 200k; SFDR(dB): 86; SINAD(dB): 71; SubFamily: Precision ADC (<=10MSPS); DatasheetVersion: SBAS062C; PackageVersion: 4040082/E, 04/2010; PackageReference: P8; PackageDescription: 8-Pin Plastic In-Line, Body 9.59 x 6.35 mm, Pitch 2.54 mm; Supplier 1: Digi-Key; Supplier Part Number 1: ADS5270IPFPTG4-ND; Digital Supply(Max)(V): 5.25; Digital Supply(Min)(V): 2.7; Eco-Plan: Green (RoHS & no Sb/Br); Mounting Technology: Through Hole; Code_JEDEC: MS-001; ComponentLink1Description: Manufacturer URL; ComponentLink1URL: http://www.ti.com/; ComponentLink2Description: Datasheet; ComponentLink2URL: http://www.ti.com/general/docs/lit/getliterature.tsp?genericPartNumber=ADS7822&fileType=pdf; ComponentLink3Description: Package Specification; ComponentLink3URL: http://www.ti.com/litv/pdf/mpdi001b
footprint TI-P8 (DIP, 8-Leads, Body 9.59x6.35mm, Pitch 2.54mm)
pins: 1 VREF (in) "Reference input", 2 IN+ (in) "Noninverting input", 3 IN- (in) "Inverting input. Connect to ground or to remote ground sense point.", 4 GND (power) "Ground", 5 ~{CS}/SHDN (in) "Chip select when low; Shutdown mode when high.", 6 DOUT (hiz) "The serial output data word  is comprised of 12 bits of data. In operation, the data are valid on the falling edge of DCLOCK. The second clock pulse after the falling edge of C\S\ enables the serial output. After one null (See Datasheet)", 7 DCLOCK (in) "Data clock synchronizes the serial data transfer and determines conversion speed.", 8 VCC+ (power) "Power supply"

## ADS7822PB
designator U?
12-Bit, 200 kSPS Micro Power Sampling ADC, -40 to 85 degC, 8-pin DIP (P8), Green (RoHS & no Sb/Br); Manufacturer: Texas Instruments; PartNumber: ADS7822PB; # Input Channels: 1; Analog Voltage AV/DD(Max)(V): 5.25; Analog Voltage AV/DD(Min)(V): 2.7; Architecture: SAR; Interface: Serial SPI; Resolution(Bits): 12; Sample Rate (max)(SPS): 200k; SFDR(dB): 86; SINAD(dB): 71; SubFamily: Precision ADC (<=10MSPS); DatasheetVersion: SBAS062C; PackageVersion: 4040082/E, 04/2010; PackageReference: P8; PackageDescription: 8-Pin Plastic In-Line, Body 9.59 x 6.35 mm, Pitch 2.54 mm; Supplier 1: Digi-Key; Supplier Part Number 1: 296-15075-ND; Digital Supply(Max)(V): 5.25; Digital Supply(Min)(V): 2.7; Eco-Plan: Green (RoHS & no Sb/Br); INL(Max)(+/-LSB): 1; Mounting Technology: Through Hole; Code_JEDEC: MS-001; ComponentLink1Description: Manufacturer URL; ComponentLink1URL: http://www.ti.com/; ComponentLink2Description: Datasheet; ComponentLink2URL: http://www.ti.com/general/docs/lit/getliterature.tsp?genericPartNumber=ADS7822&fileType=pdf; ComponentLink3Description: Package Specification; ComponentLink3URL: http://www.ti.com/litv/pdf/mpdi001b
footprint TI-P8 (DIP, 8-Leads, Body 9.59x6.35mm, Pitch 2.54mm)
pins: 1 VREF (in) "Reference input", 2 IN+ (in) "Noninverting input", 3 IN- (in) "Inverting input. Connect to ground or to remote ground sense point.", 4 GND (power) "Ground", 5 ~{CS}/SHDN (in) "Chip select when low; Shutdown mode when high.", 6 DOUT (hiz) "The serial output data word  is comprised of 12 bits of data. In operation, the data are valid on the falling edge of DCLOCK. The second clock pulse after the falling edge of C\S\ enables the serial output. After one null (See Datasheet)", 7 DCLOCK (in) "Data clock synchronizes the serial data transfer and determines conversion speed.", 8 VCC+ (power) "Power supply"

## ADS7822PBG4
designator U?
12-Bit, 200 kSPS Micro Power Sampling ADC, -40 to 85 degC, 8-pin DIP (P8), Green (RoHS & no Sb/Br); Manufacturer: Texas Instruments; PartNumber: ADS7822PBG4; # Input Channels: 1; Analog Voltage AV/DD(Max)(V): 5.25; Analog Voltage AV/DD(Min)(V): 2.7; Architecture: SAR; Interface: Serial SPI; Resolution(Bits): 12; Sample Rate (max)(SPS): 200k; SFDR(dB): 86; SINAD(dB): 71; SubFamily: Precision ADC (<=10MSPS); DatasheetVersion: SBAS062C; PackageVersion: 4040082/E, 04/2010; PackageReference: P8; PackageDescription: 8-Pin Plastic In-Line, Body 9.59 x 6.35 mm, Pitch 2.54 mm; Supplier 1: Digi-Key; Supplier Part Number 1: 296-19272-ND; Digital Supply(Max)(V): 5.25; Digital Supply(Min)(V): 2.7; Eco-Plan: Green (RoHS & no Sb/Br); INL(Max)(+/-LSB): 1; Mounting Technology: Through Hole; Code_JEDEC: MS-001; ComponentLink1Description: Manufacturer URL; ComponentLink1URL: http://www.ti.com/; ComponentLink2Description: Datasheet; ComponentLink2URL: http://www.ti.com/general/docs/lit/getliterature.tsp?genericPartNumber=ADS7822&fileType=pdf; ComponentLink3Description: Package Specification; ComponentLink3URL: http://www.ti.com/litv/pdf/mpdi001b
footprint TI-P8 (DIP, 8-Leads, Body 9.59x6.35mm, Pitch 2.54mm)
pins: 1 VREF (in) "Reference input", 2 IN+ (in) "Noninverting input", 3 IN- (in) "Inverting input. Connect to ground or to remote ground sense point.", 4 GND (power) "Ground", 5 ~{CS}/SHDN (in) "Chip select when low; Shutdown mode when high.", 6 DOUT (hiz) "The serial output data word  is comprised of 12 bits of data. In operation, the data are valid on the falling edge of DCLOCK. The second clock pulse after the falling edge of C\S\ enables the serial output. After one null (See Datasheet)", 7 DCLOCK (in) "Data clock synchronizes the serial data transfer and determines conversion speed.", 8 VCC+ (power) "Power supply"

## ADS7822PC
designator U?
12-Bit, 200 kSPS Micro Power Sampling ADC, -40 to 85 degC, 8-pin DIP (P8), Green (RoHS & no Sb/Br); Manufacturer: Texas Instruments; PartNumber: ADS7822PC; # Input Channels: 1; Analog Voltage AV/DD(Max)(V): 5.25; Analog Voltage AV/DD(Min)(V): 2.7; Architecture: SAR; INL(Max)(+/-LSB): 0.75; Interface: Serial SPI; Resolution(Bits): 12; Sample Rate (max)(SPS): 200k; SFDR(dB): 86; SINAD(dB): 71; SubFamily: Precision ADC (<=10MSPS); DatasheetVersion: SBAS062C; PackageVersion: 4040082/E, 04/2010; PackageReference: P8; PackageDescription: 8-Pin Plastic In-Line, Body 9.59 x 6.35 mm, Pitch 2.54 mm; Supplier 1: Digi-Key; Supplier Part Number 1: 296-15074-ND; Digital Supply(Max)(V): 5.25; Digital Supply(Min)(V): 2.7; Eco-Plan: Green (RoHS & no Sb/Br); Mounting Technology: Through Hole; Code_JEDEC: MS-001; ComponentLink1Description: Manufacturer URL; ComponentLink1URL: http://www.ti.com/; ComponentLink2Description: Datasheet; ComponentLink2URL: http://www.ti.com/general/docs/lit/getliterature.tsp?genericPartNumber=ADS7822&fileType=pdf; ComponentLink3Description: Package Specification; ComponentLink3URL: http://www.ti.com/litv/pdf/mpdi001b
footprint TI-P8 (DIP, 8-Leads, Body 9.59x6.35mm, Pitch 2.54mm)
pins: 1 VREF (in) "Reference input", 2 IN+ (in) "Noninverting input", 3 IN- (in) "Inverting input. Connect to ground or to remote ground sense point.", 4 GND (power) "Ground", 5 ~{CS}/SHDN (in) "Chip select when low; Shutdown mode when high.", 6 DOUT (hiz) "The serial output data word  is comprised of 12 bits of data. In operation, the data are valid on the falling edge of DCLOCK. The second clock pulse after the falling edge of C\S\ enables the serial output. After one null (See Datasheet)", 7 DCLOCK (in) "Data clock synchronizes the serial data transfer and determines conversion speed.", 8 VCC+ (power) "Power supply"

## ADS7822PCG4
designator U?
12-Bit, 200 kSPS Micro Power Sampling ADC, -40 to 85 degC, 8-pin DIP (P8), Green (RoHS & no Sb/Br); Manufacturer: Texas Instruments; PartNumber: ADS7822PCG4; # Input Channels: 1; Analog Voltage AV/DD(Max)(V): 5.25; Analog Voltage AV/DD(Min)(V): 2.7; Architecture: SAR; INL(Max)(+/-LSB): 0.75; Interface: Serial SPI; Resolution(Bits): 12; Sample Rate (max)(SPS): 200k; SFDR(dB): 86; SINAD(dB): 71; SubFamily: Precision ADC (<=10MSPS); DatasheetVersion: SBAS062C; PackageVersion: 4040082/E, 04/2010; PackageReference: P8; PackageDescription: 8-Pin Plastic In-Line, Body 9.59 x 6.35 mm, Pitch 2.54 mm; Supplier 1: Digi-Key; Supplier Part Number 1: ADS5120CGHK-ND; Digital Supply(Max)(V): 5.25; Digital Supply(Min)(V): 2.7; Eco-Plan: Green (RoHS & no Sb/Br); Mounting Technology: Through Hole; Code_JEDEC: MS-001; ComponentLink1Description: Manufacturer URL; ComponentLink1URL: http://www.ti.com/; ComponentLink2Description: Datasheet; ComponentLink2URL: http://www.ti.com/general/docs/lit/getliterature.tsp?genericPartNumber=ADS7822&fileType=pdf; ComponentLink3Description: Package Specification; ComponentLink3URL: http://www.ti.com/litv/pdf/mpdi001b
footprint TI-P8 (DIP, 8-Leads, Body 9.59x6.35mm, Pitch 2.54mm)
pins: 1 VREF (in) "Reference input", 2 IN+ (in) "Noninverting input", 3 IN- (in) "Inverting input. Connect to ground or to remote ground sense point.", 4 GND (power) "Ground", 5 ~{CS}/SHDN (in) "Chip select when low; Shutdown mode when high.", 6 DOUT (hiz) "The serial output data word  is comprised of 12 bits of data. In operation, the data are valid on the falling edge of DCLOCK. The second clock pulse after the falling edge of C\S\ enables the serial output. After one null (See Datasheet)", 7 DCLOCK (in) "Data clock synchronizes the serial data transfer and determines conversion speed.", 8 VCC+ (power) "Power supply"

## ADS7822PG4
designator U?
12-Bit, 200 kSPS Micro Power Sampling ADC, -40 to 85 degC, 8-pin DIP (P8), Green (RoHS & no Sb/Br); Manufacturer: Texas Instruments; PartNumber: ADS7822PG4; # Input Channels: 1; Analog Voltage AV/DD(Max)(V): 5.25; Analog Voltage AV/DD(Min)(V): 2.7; Architecture: SAR; INL(Max)(+/-LSB): 2; Interface: Serial SPI; Resolution(Bits): 12; Sample Rate (max)(SPS): 200k; SFDR(dB): 86; SINAD(dB): 71; SubFamily: Precision ADC (<=10MSPS); DatasheetVersion: SBAS062C; PackageVersion: 4040082/E, 04/2010; PackageReference: P8; PackageDescription: 8-Pin Plastic In-Line, Body 9.59 x 6.35 mm, Pitch 2.54 mm; Supplier 1: Digi-Key; Supplier Part Number 1: 296-19274-ND; Digital Supply(Max)(V): 5.25; Digital Supply(Min)(V): 2.7; Eco-Plan: Green (RoHS & no Sb/Br); Mounting Technology: Through Hole; Code_JEDEC: MS-001; ComponentLink1Description: Manufacturer URL; ComponentLink1URL: http://www.ti.com/; ComponentLink2Description: Datasheet; ComponentLink2URL: http://www.ti.com/general/docs/lit/getliterature.tsp?genericPartNumber=ADS7822&fileType=pdf; ComponentLink3Description: Package Specification; ComponentLink3URL: http://www.ti.com/litv/pdf/mpdi001b
footprint TI-P8 (DIP, 8-Leads, Body 9.59x6.35mm, Pitch 2.54mm)
pins: 1 VREF (in) "Reference input", 2 IN+ (in) "Noninverting input", 3 IN- (in) "Inverting input. Connect to ground or to remote ground sense point.", 4 GND (power) "Ground", 5 ~{CS}/SHDN (in) "Chip select when low; Shutdown mode when high.", 6 DOUT (hiz) "The serial output data word  is comprised of 12 bits of data. In operation, the data are valid on the falling edge of DCLOCK. The second clock pulse after the falling edge of C\S\ enables the serial output. After one null (See Datasheet)", 7 DCLOCK (in) "Data clock synchronizes the serial data transfer and determines conversion speed.", 8 VCC+ (power) "Power supply"